# EAGLE library part 750811137 (library Wurth_Power Magnetics_WE-OLEE)
WE-OLEE EE-Style Offline Flyback Transformers Characteristics Switching Frequency 50-150kHz Low real estate Extended Rails Reinforced Insulation IEC60950-1, EN60950-1, UL60950-1/CSA60950-1 and AS/NZS60950.1 Operating Temp: -40°C to +125°C Applications Offline Switching Power Power Electronics Electronic Ballasts White Goods Industrial Controls Industrial Telecom Metering LED Lighting <https://www.we-online.com/catalog/media/o32894v209%20Family_MID-OLEE.jpg> Details see: www.we-online.com/en/components/products/WE-OLEE Created by Ella Wu 2023-04-11 2023 (C) Wurth Elektronik
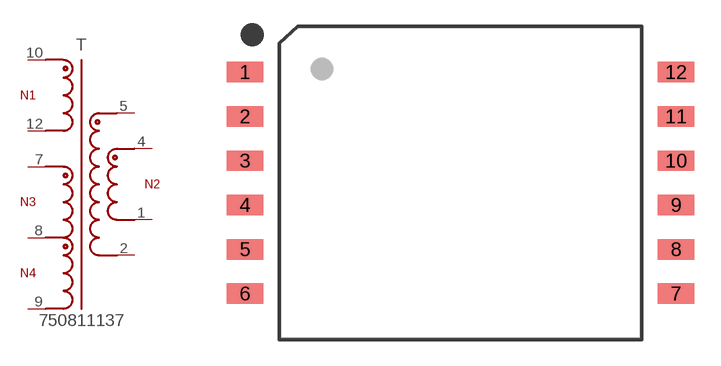
[diagram p9: symbol with the pads of WE-OLEE_EE16/8/5; footprint WE-OLEE_EE16/8/5]

Designator prefix T

## 750811137 (DATASHEET-URL: https://www.we-online.com/redexpert/spec/750811137?ae; F-SWTICH: 80 - 130kHz; HEIGHT: 13.8mm; IOUT1: 1.05A; ISAT1: 740mA; L1: 1.39mH; LENGTH: 17.78mm; MOUNT: SMT; N: 9.7:1:1.57; PART-NUMBER: 750811137; VALUE: 750811137; VAUX: 20V; VAUX1: 6V; VAUX2: 14A; VIN: 85 - 265 V (AC); VOUT1: 12V; VT: 3000V (AC); WIDTH: 26.1mm)  [WE-OLEE_EE16/8/5]
1  1  pas
2  2  pas
4  4  pas
5  5  pas
7  7  pas
8  8  pas
9  9  pas
10  10  pas
12  12  pas

## Footprint WE-OLEE_EE16/8/5 (pad centres in mm)
WE-OLEE EE-Style Offline Flyback Transformers Size: EE16/8/5,SMT,12pins LXWXH=17.78X26.9X13.8mm
smd 2.1 x 1.17: 1 -12.36,6.35; 2 -12.36,3.81; 3 -12.36,1.27; 4 -12.36,-1.27; 5 -12.36,-3.81; 6 -12.36,-6.35; 7 12.36,-6.35; 8 12.36,-3.81; 9 12.36,-1.27; 10 12.36,1.27; 11 12.36,3.81; 12 12.36,6.35